# Altium footprint library STM32F103C8T6_board.PcbLib: 1 footprints
Each footprint in its own frame and in the unit in brackets; x right, y up, seen from the top. Pads: shape width x height; smd on the part's side, far side on the other; paste and mask are expansions set on the pad; w line width, h text height; cw(c..) or ccw(c..) is an arc to the next point about the centre after c.
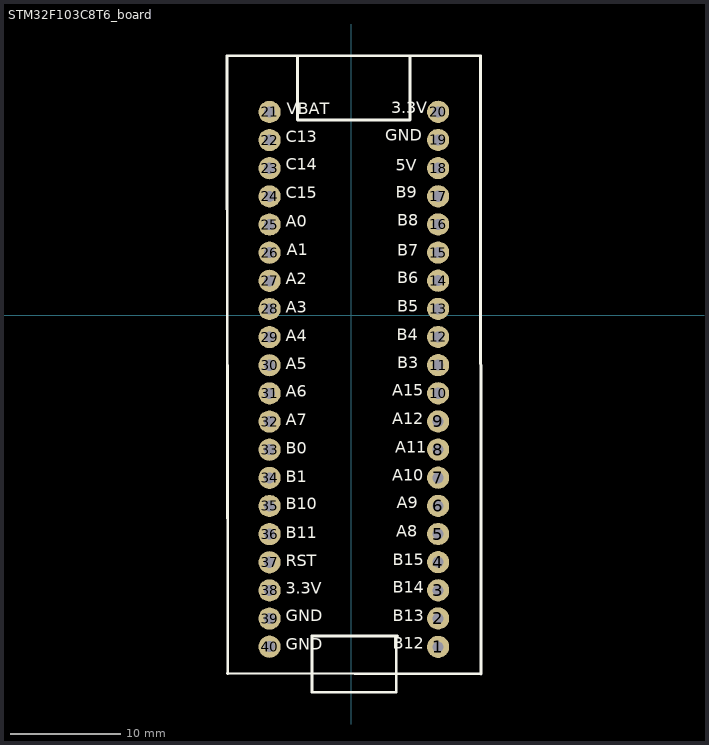
[diagram p0: the footprint, top view; thin cyan lines are the x and y axes]

## STM32F103C8T6_board [mm]
pads (40):
  round 2 hole 1: 1(7.828,-29.909) 2(7.828,-27.343) 3(7.828,-24.803) 4(7.828,-22.263) 5(7.828,-19.723) 6(7.828,-17.183) 7(7.828,-14.643) 8(7.828,-12.103) 9(7.828,-9.563) 10(7.828,-7.023) 11(7.828,-4.483) 12(7.828,-1.943) 13(7.828,0.597) 14(7.828,3.137) 15(7.828,5.677) 16(7.828,8.217) 17(7.828,10.757) 18(7.828,13.297) 19(7.828,15.837) 20(7.828,18.377) 21(-7.386,18.366) 22(-7.386,15.826) 23(-7.386,13.286) 24(-7.386,10.746) 25(-7.386,8.206) 26(-7.386,5.666) 27(-7.386,3.126) 28(-7.386,0.586) 29(-7.386,-1.954) 30(-7.386,-4.494) 31(-7.386,-7.034) 32(-7.386,-9.574) 33(-7.386,-12.114) 34(-7.386,-14.654) 35(-7.386,-17.194) 36(-7.386,-19.734) 37(-7.386,-22.274) 38(-7.386,-24.814) 39(-7.386,-27.354) 40(-7.386,-29.894)
Top Overlay:
  lines w0.254: -11.171,-32.296 11.694,-32.344 ; -11.158,-32.309 -11.222,23.431 11.638,23.431 11.689,-32.309 ; -3.576,-28.918 -3.576,-33.998 4.044,-33.998 4.044,-28.918 ; -3.556,-28.918 -3.556,-33.998 1.778,-33.998 ; -3.449,-28.918 4.171,-28.918 ; -3.429,-28.918 1.905,-28.918 ; 5.288,23.368 5.288,17.653 -4.872,17.653 ; -4.872,17.653 -4.872,23.368 -4.872,17.653
  text "5V" at 3.993,12.694 h1.78
  text "B9" at 3.993,10.281 h1.78
  text "B8" at 4.12,7.741 h1.78
  text "3.3V" at 3.612,17.901 h1.78
  text "GND" at 3.048,15.387 h1.78
  text "A5" at -5.913,-5.213 h1.78
  text "A2" at -5.913,2.438 h1.78
  text "A3" at -5.913,-0.107 h1.78
  text "A4" at -5.913,-2.692 h1.78
  text "RST" at -5.913,-22.993 h1.78
  text "B10" at -5.913,-17.862 h1.78
  text "B11" at -5.913,-20.447 h1.78
  text "A6" at -5.913,-7.702 h1.78
  text "A7" at -5.913,-10.287 h1.78
  text "B0" at -5.913,-12.833 h1.78
  text "B1" at -5.913,-15.392 h1.78
  text "3.3V" at -5.913,-25.456 h1.78
  text "B15" at 3.749,-22.891 h1.78
  text "A8" at 4.056,-20.326 h1.78
  text "A11" at 3.973,-12.751 h1.78
  text "B3" at 4.12,-5.111 h1.78
  text "A9" at 4.087,-17.76 h1.78
  text "A15" at 3.686,-7.6 h1.78
  text "A12" at 3.686,-10.185 h1.78
  text "A10" at 3.686,-15.271 h1.78
  text "VBAT" at -5.84,17.78 h1.78
  text "B5" at 4.12,-0.006 h1.78
  text "B14" at 3.719,-25.375 h1.78
  text "B7" at 4.12,5.029 h1.78
  text "B4" at 4.087,-2.591 h1.78
  text "B6" at 4.15,2.56 h1.78
  text "C15" at -5.913,10.205 h1.78
  text "C13" at -5.913,15.26 h1.78
  text "C14" at -5.913,12.771 h1.78
  text "A0" at -5.913,7.64 h1.78
  text "A1" at -5.842,5.08 h1.78
  text "GND" at -5.913,-27.946 h1.78
  text "B13" at 3.739,-27.946 h1.78
  text "GND" at -5.913,-30.511 h1.78
  text "B12" at 3.749,-30.455 h1.78
3D body "STM32.step": height 17.27, standoff -1, extent -11.176,-33.274 11.684,24.286
3D body "User Library-PBS20_(DS1023)_1line_connectors_h=5_0mm_step_2_54mm-1.step": height 5, standoff -3.3, extent -8.636,-31.414 -6.136,19.886
3D body "User Library-PBS20_(DS1023)_1line_connectors_h=5_0mm_step_2_54mm-1.step": height 5, standoff -3.3, extent 6.578,-31.428 9.078,19.872